# EAGLE library part SK9822 (library LED)
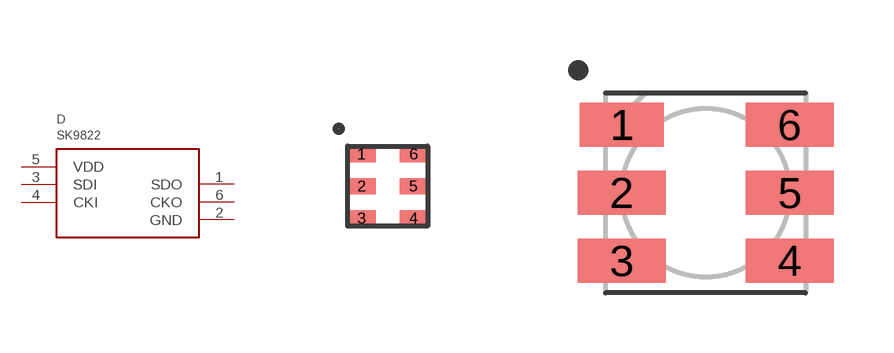
[diagram p1: symbol with the pads of 2020; footprints 2020, 5050]

Designator prefix D

## SK9822-EC20  [2020]
1  SDO
2  GND
3  SDI
4  CKI
5  VDD
6  CKO

## SK9822  [5050]
1  SDI
2  CKI
3  GND
4  VDD
5  CKO
6  SDO

## Footprint 2020 (pad centres in mm)
smd 0.7 x 0.4: 1 -0.65,0.8; 2 -0.65,0; 3 -0.65,-0.8; 4 0.65,-0.8; 5 0.65,0; 6 0.65,0.8

## Footprint 5050 (pad centres in mm)
smd 2.1 x 1.1: 1 -2.1,1.7
smd 2.2 x 1.1: 2 -2.1,0; 3 -2.1,-1.7; 4 2.1,-1.7; 5 2.1,0; 6 2.1,1.7